# Altium schematic symbol library Filters-Fuses.SchLib: 7 symbols
Pins are listed as number, name and electrical type; pins without a type are passive.

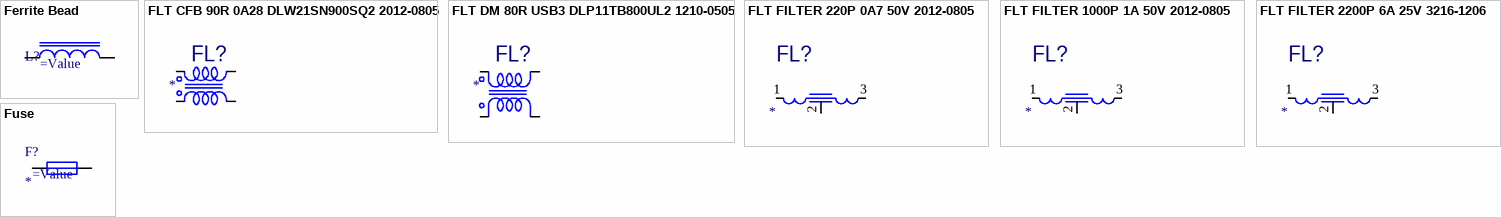
[diagram p0: symbols Ferrite Bead to Fuse]

## Ferrite Bead
designator L?
=Description; Value: =Value
pins: 1, 2

## FLT CFB 90R 0A28 DLW21SN900SQ2 2012-0805
designator FL?
=Description
pins: 1, 2, 3, 4

## FLT DM 80R USB3 DLP11TB800UL2 1210-0505
designator FL?
=Description
pins: 1, 2, 3, 4

## FLT FILTER 220P 0A7 50V 2012-0805
designator FL?
=Description
pins: 1, 2, 3

## FLT FILTER 1000P 1A 50V 2012-0805
designator FL?
=Description
pins: 1, 2, 3

## FLT FILTER 2200P 6A 25V 3216-1206
designator FL?
=Description
pins: 1, 2, 3

## Fuse
designator F?
=Description; Value: =Value
pins: 1, 2